# Altium schematic symbol library LSM6DSRXTR.SchLib: 1 symbol
Pins are listed as number, name and electrical type; pins without a type are passive.

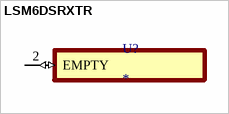
[diagram p0: symbol LSM6DSRXTR]

## LSM6DSRXTR
designator U?
MF: {'manufacturer': u'STMicroelectronics'}; MP: LSM6DSRXTR; Package: None; Price: None; Value: *; Availability: Unavailable
footprint PQFN50P250X300X86-14N
pins: 2 EMPTY (io)